# EAGLE library part PICO-6_RA_1.50MM (library all-connectors)
PICO-6_RA_1.50MM Molex 1.50mm pitch / Wire-to-board system offers an ideal combination of low profile, high current and durable locking for any application requiring space savings and secure mating retention
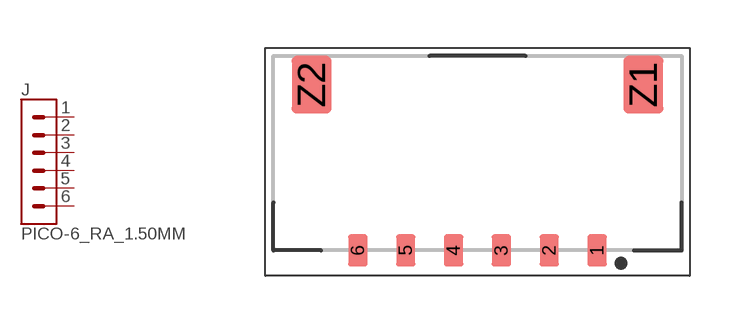
[diagram p19: symbol with the pads of PICO-6_RA_1.50MM; footprint PICO-6_RA_1.50MM]

Designator prefix J

## PICO-6_RA_1.50MM  [PICO-6_RA_1.50MM]
1  1  pas
2  2  pas
3  3  pas
4  4  pas
5  5  pas
6  6  pas

## Footprint PICO-6_RA_1.50MM (pad centres in mm)
https://www.molex.com/pdm_docs/sd/5040500291_sd.pdf
smd 0.6 x 1: 1 3.75,-3; 2 2.25,-3; 3 0.75,-3; 4 -0.75,-3; 5 -2.25,-3; 6 -3.75,-3
smd 1.25 x 1.8: Z1 5.2,2.2; Z2 -5.2,2.2